# EAGLE library part CART-CONNECTOR (library Sega GG IC)
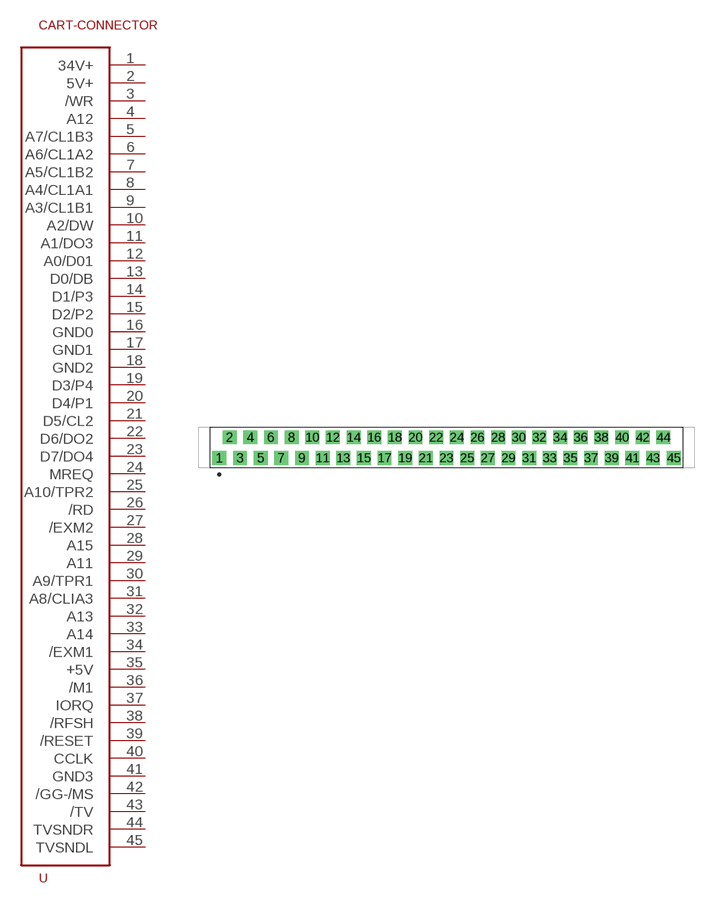
[diagram p2: symbol with the pads of CART-CONECTOR-BOARD; footprint CART-CONECTOR-BOARD]

Designator prefix -

## CART-CONNECTOR  [CART-CONECTOR-BOARD]
1  34V+
2  5V+
3  /WR
4  A12
5  A7/CL1B3
6  A6/CL1A2
7  A5/CL1B2
8  A4/CL1A1
9  A3/CL1B1
10  A2/DW
11  A1/DO3
12  A0/D01
13  D0/DB
14  D1/P3
15  D2/P2
16  GND0
17  GND1
18  GND2
19  D3/P4
20  D4/P1
21  D5/CL2
22  D6/DO2
23  D7/DO4
24  MREQ
25  A10/TPR2
26  /RD
27  /EXM2
28  A15
29  A11
30  A9/TPR1
31  A8/CLIA3
32  A13
33  A14
34  /EXM1
35  +5V
36  /M1
37  IORQ
38  /RFSH
39  /RESET
40  CCLK
41  GND3
42  /GG-/MS
43  /TV
44  TVSNDR
45  TVSNDL

## Footprint CART-CONECTOR-BOARD (pad centres in mm)
Single-row, 22-pin Pin Header (Male) Straight, 2.54 mm (0.10 in) col pitch, 5.84 mm mating length, 10.16 X 5.08 X 8.38 mm body Single-row (1X22), 22-pin Pin Header (Male) Straight package with 2.54 mm (0.10 in) col pitch, 0.64 mm lead width, 3.00 mm tail length and 5.84 mm mating length with overall size 10.16 X 5.08 X 8.38 mm, pin pattern - clockwise from top left
drill 1.105 pad 1.705 square: 1 -25.4,-2.54; 2 -24.13,0; 3 -22.86,-2.54; 4 -21.59,0; 5 -20.32,-2.54; 6 -19.05,0; 7 -17.78,-2.54; 8 -16.51,0; 9 -15.24,-2.54; 10 -13.97,0; 11 -12.7,-2.54; 12 -11.43,0; 13 -10.16,-2.54; 14 -8.89,0; 15 -7.62,-2.54; 16 -6.35,0; 17 -5.08,-2.54; 18 -3.81,0; 19 -2.54,-2.54; 20 -1.27,0; 21 0,-2.54; 22 1.27,0; 23 2.54,-2.54; 24 3.81,0; 25 5.08,-2.54; 26 6.35,0; 27 7.62,-2.54; 28 8.89,0; 29 10.16,-2.54; 30 11.43,0; 31 12.7,-2.54; 32 13.97,0; 33 15.24,-2.54; 34 16.51,0; 35 17.78,-2.54; 36 19.05,0; 37 20.32,-2.54; 38 21.59,0; 39 22.86,-2.54; 40 24.13,0; 41 25.4,-2.54; 42 26.67,0; 43 27.94,-2.54; 44 29.21,0; 45 30.48,-2.54